# Altium footprint library CON_Vertical 17X2_Ribbon.PcbLib: 1 footprints
Each footprint in its own frame and in the unit in brackets; x right, y up, seen from the top. Pads: shape width x height; smd on the part's side, far side on the other; paste and mask are expansions set on the pad; w line width, h text height; cw(c..) or ccw(c..) is an arc to the next point about the centre after c.
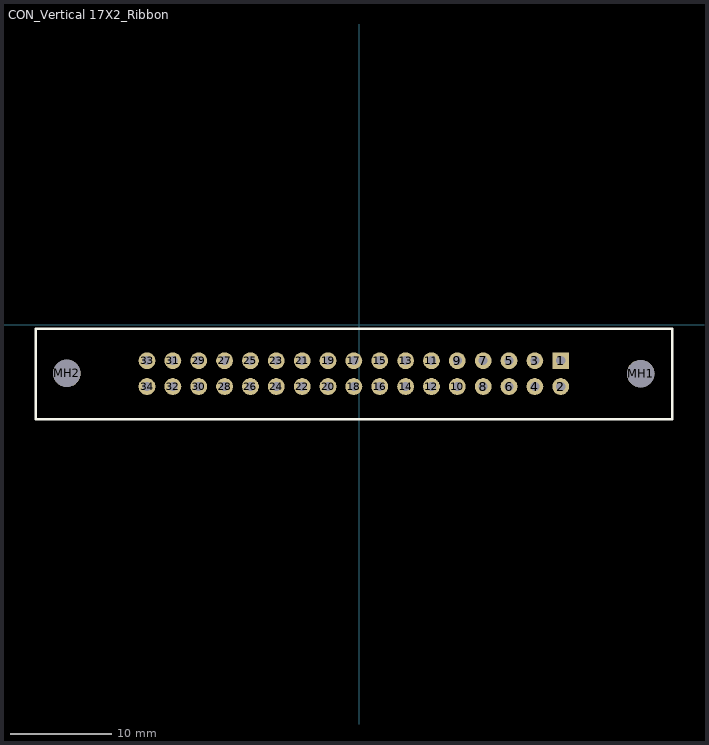
[diagram p0: the footprint, top view; thin cyan lines are the x and y axes]

## CON_Vertical 17X2_Ribbon [mil] "34 Pin Ribbon Connector"
pads (36):
  rect 65x65 hole 35: 1(780,-138)
  round 65 hole 35: 2(780,-238) 3(680,-138) 4(680,-238) 5(580,-138) 6(580,-238) 7(480,-138) 8(480,-238) 9(380,-138) 10(380,-238) 11(280,-138) 12(280,-238) 13(180,-138) 14(180,-238) 15(80,-138) 16(80,-238) 17(-20,-138) 18(-20,-238) 19(-120,-138) 20(-120,-238) 21(-220,-138) 22(-220,-238) 23(-320,-138) 24(-320,-238) 25(-420,-138) 26(-420,-238) 27(-520,-138) 28(-520,-238) 29(-620,-138) 30(-620,-238) 31(-720,-138) 32(-720,-238) 33(-820,-138) 34(-820,-238)
  round 106 hole 106: MH1(1089,-188) MH2(-1130,-187)
Top Overlay:
  lines w10: -1250,-364 1211,-364 1211,-15 -1250,-15 -1250,-364
3D body: height 918.81, standoff -107.09, extent -1250.3,-367.12 1210.32,-20.67